# EAGLE library part DA08 (library switch-dil)
DIL/CODE SWITCH
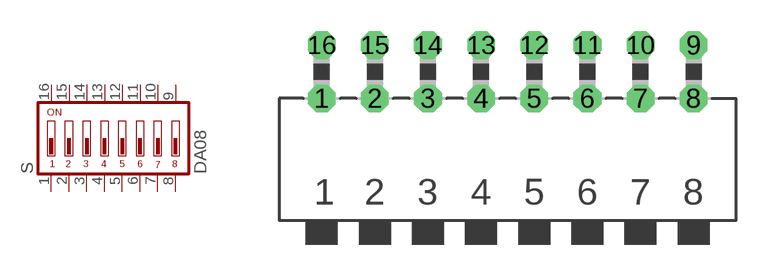
[diagram p15: symbol with the pads of DA-08; footprint DA-08]

Designator prefix S

## DA08 (MPN: MCDA08; OC_FARNELL: 9471561; OC_NEWARK: 26M1092)  [DA-08]
1  1  pas
2  2  pas
3  3  pas
4  4  pas
5  5  pas
6  6  pas
7  7  pas
8  8  pas
9  9  pas
10  10  pas
11  11  pas
12  12  pas
13  13  pas
14  14  pas
15  15  pas
16  16  pas

## Footprint DA-08 (pad centres in mm)
DIL/CODE SWITCH Mors distributor Buerklin, 17G592
drill 0.813 octagon: 1 -8.89,-1.27; 2 -6.35,-1.27; 3 -3.81,-1.27; 4 -1.27,-1.27; 5 1.27,-1.27; 6 3.81,-1.27; 7 6.35,-1.27; 8 8.89,-1.27; 9 8.89,1.27; 10 6.35,1.27; 11 3.81,1.27; 12 1.27,1.27; 13 -1.27,1.27; 14 -3.81,1.27; 15 -6.35,1.27; 16 -8.89,1.27